# Altium schematic symbol library ECEN403Parts.SchLib: 1 symbol
Pins are listed as number, name and electrical type; pins without a type are passive.

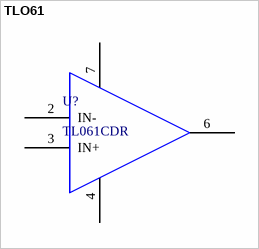
[diagram p0: symbol TLO61]

## TLO61
designator U?, comment TL061CDR
IC OPAMP JFET 1 CIRCUIT 8SOIC
footprint Model Name (Footprint not found)
footprint SOIC8
pins: 2 IN-, 3 IN+, 4 VCC-, 6 OUT, 7 VCC+